# EAGLE library part AD8495 (library MyParts)
AD8495 Precision Thermocouple Amplifier with Cold Junction Compensation http://www.analog.com/static/imported-files/data_sheets/AD8494_8495_8496_8497.pdf
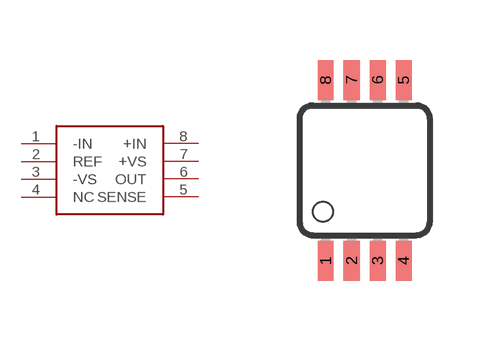
[diagram p2: symbol with the pads of MSOP08; footprint MSOP08]

Designator prefix -

## AD8495  [MSOP08]
1  -IN
2  REF
3  -VS
4  NC
5  SENSE
6  OUT
7  +VS
8  +IN

## Footprint MSOP08 (pad centres in mm)
8-Lead micro SO (RM-8) Source: http://www.analog.com/UploadedFiles/Data_Sheets/703465986AD8611_2_0.pdf
smd 0.4 x 1: 1 -0.976,-2.263; 2 -0.326,-2.263; 3 0.324,-2.263; 4 0.974,-2.263; 5 0.974,2.262; 6 0.324,2.262; 7 -0.326,2.262; 8 -0.976,2.262